# EAGLE library part USB-A (library connectors)
BERG USB connector
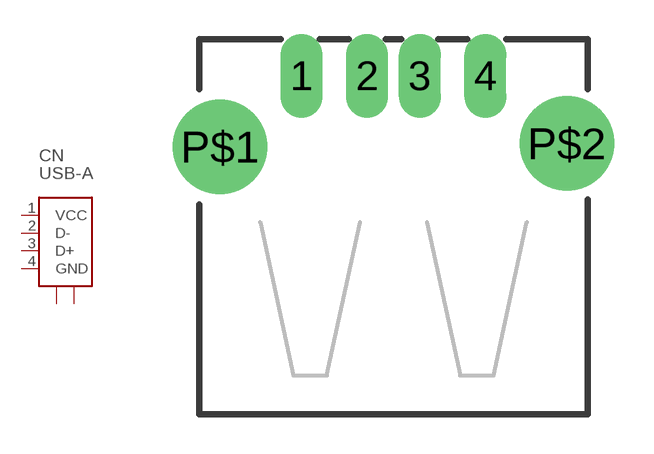
[diagram p1: symbol with the pads of USB-A; footprint USB-A]

Designator prefix CN

## USB-A (PACKAGE: USB_A_TH)  [USB-A]
1  VCC  pwr
2  D-
3  D+
4  GND  pwr
P$1  SHIELD  pwr
P$2  SHIELD  pwr

## Footprint USB-A (pad centres in mm)
USB connector
drill 0.9 pad 1.6 long: 1 -3.5,2.71; 2 -1,2.71; 3 1,2.71
drill 0.8 pad 1.6 long: 4 3.5,2.71
drill 1.8 pad 3.6: P$1 -6.604,0
drill 1.6 pad 3.6: P$2 6.604,0.127